# Altium footprint library CustomLLC.PcbLib: 1 footprints
Each footprint in its own frame and in the unit in brackets; x right, y up, seen from the top. Pads: shape width x height; smd on the part's side, far side on the other; paste and mask are expansions set on the pad; w line width, h text height; cw(c..) or ccw(c..) is an arc to the next point about the centre after c.
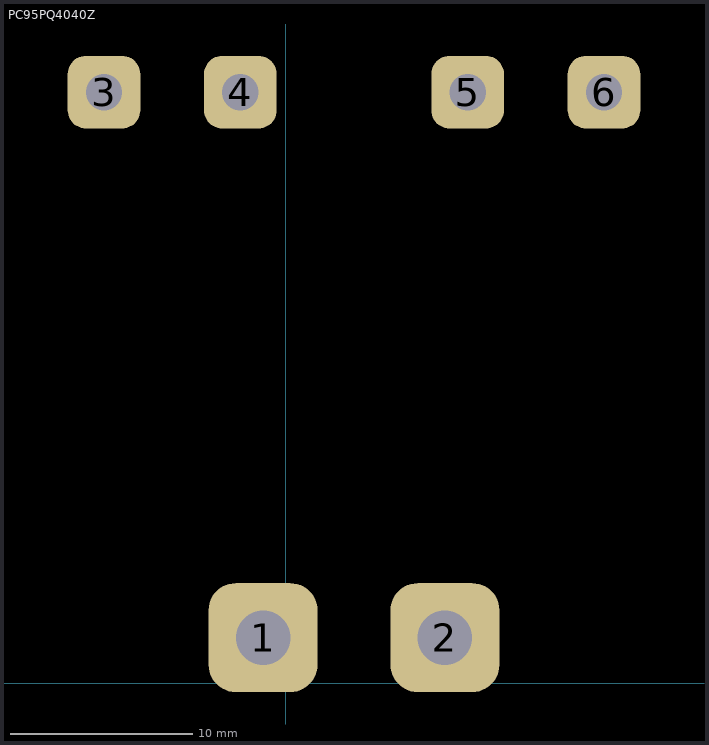
[diagram p0: the footprint, top view; thin cyan lines are the x and y axes]

## PC95PQ4040Z [mm]
pads (6):
  rrect50% 6x6 hole 3: 1(-1.25,2.5) 2(8.75,2.5)
  rrect50% 4x4 hole 2: 3(-10,32.5) 4(-2.5,32.5) 5(10,32.5) 6(17.5,32.5)
3D body "PC95PQ4040Z.STEP": height 40, standoff 0, extent -16.25,0 23.75,35